# Altium footprint library ESP32C6WROOM1N8.PcbLib: 1 footprints
Each footprint in its own frame and in the unit in brackets; x right, y up, seen from the top. Pads: shape width x height; smd on the part's side, far side on the other; paste and mask are expansions set on the pad; w line width, h text height; cw(c..) or ccw(c..) is an arc to the next point about the centre after c.
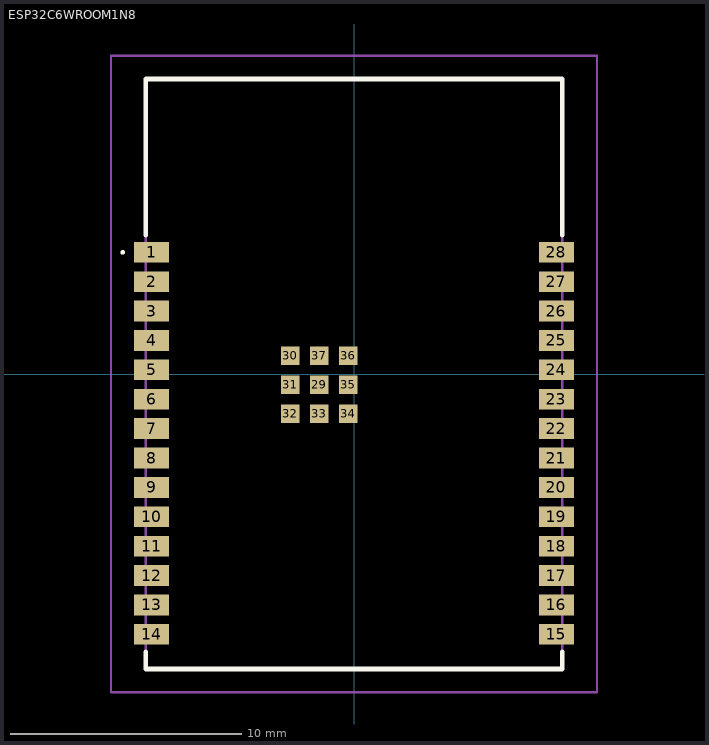
[diagram p0: the footprint, top view; thin cyan lines are the x and y axes]

## ESP32C6WROOM1N8 [mm]
pads (37):
  rect 1.5x0.9 smd: 1(-8.75,5.26) 2(-8.75,3.99) 3(-8.75,2.72) 4(-8.75,1.45) 5(-8.75,0.18) 6(-8.75,-1.09) 7(-8.75,-2.36) 8(-8.75,-3.63) 9(-8.75,-4.9) 10(-8.75,-6.17) 11(-8.75,-7.44) 12(-8.75,-8.71) 13(-8.75,-9.98) 14(-8.75,-11.25) 15(8.75,-11.25) 16(8.75,-9.98) 17(8.75,-8.71) 18(8.75,-7.44) 19(8.75,-6.17) 20(8.75,-4.9) 21(8.75,-3.63) 22(8.75,-2.36) 23(8.75,-1.09) 24(8.75,0.18) 25(8.75,1.45) 26(8.75,2.72) 27(8.75,3.99) 28(8.75,5.26)
  rect 0.8x0.8 smd: 29(-1.505,-0.46) 30(-2.755,0.79) 31(-2.755,-0.46) 32(-2.755,-1.71) 33(-1.505,-1.71) 34(-0.255,-1.71) 35(-0.255,-0.46) 36(-0.255,0.79) 37(-1.505,0.79)
Top Overlay:
  lines w0.1: -10.05,5.26 -10.05,5.26 ; -10.05,5.26 ccw(c-10,5.26) -9.95,5.26 ; -10.05,5.26 cw(c-10,5.26) -9.95,5.26 ; -9.95,5.26 -9.95,5.26
  lines w0.2: -9,-12 -9,-12.75 9,-12.75 9,-12 ; -9,6 -9,12.75 9,12.75 9,6
Mechanical 15:
  lines w0.1: -9,-12.75 9,-12.75 9,12.75 -9,12.75 -9,-12.75
Mechanical 20:
  lines w0.1: -10.5,-13.75 10.5,-13.75 10.5,13.75 -10.5,13.75 -10.5,-13.75